# Altium schematic symbol library SymbolLibrary.SchLib: 1 symbol
Pins are listed as number, name and electrical type; pins without a type are passive.

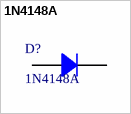
[diagram p0: symbol 1N4148A]

## 1N4148A
designator D?
DIODE GEN PURP 100V 150MA DO35; ComponentLink1Description: Datasheet; ComponentLink1URL: Datasheets\Taiwan Semiconductor\1N4148 SERIES_J1804.pdf; ComponentLink2Description: Datasheet Folder; ComponentLink2URL: Datasheets\Taiwan Semiconductor\
pins: 1 A, 2 K